# Altium footprint library Capacitors THD.PcbLib: 270 footprints (part 15 of 17)
Each footprint in its own frame and in the unit in brackets; x right, y up, seen from the top. Pads: shape width x height; smd on the part's side, far side on the other; paste and mask are expansions set on the pad; w line width, h text height; cw(c..) or ccw(c..) is an arc to the next point about the centre after c.
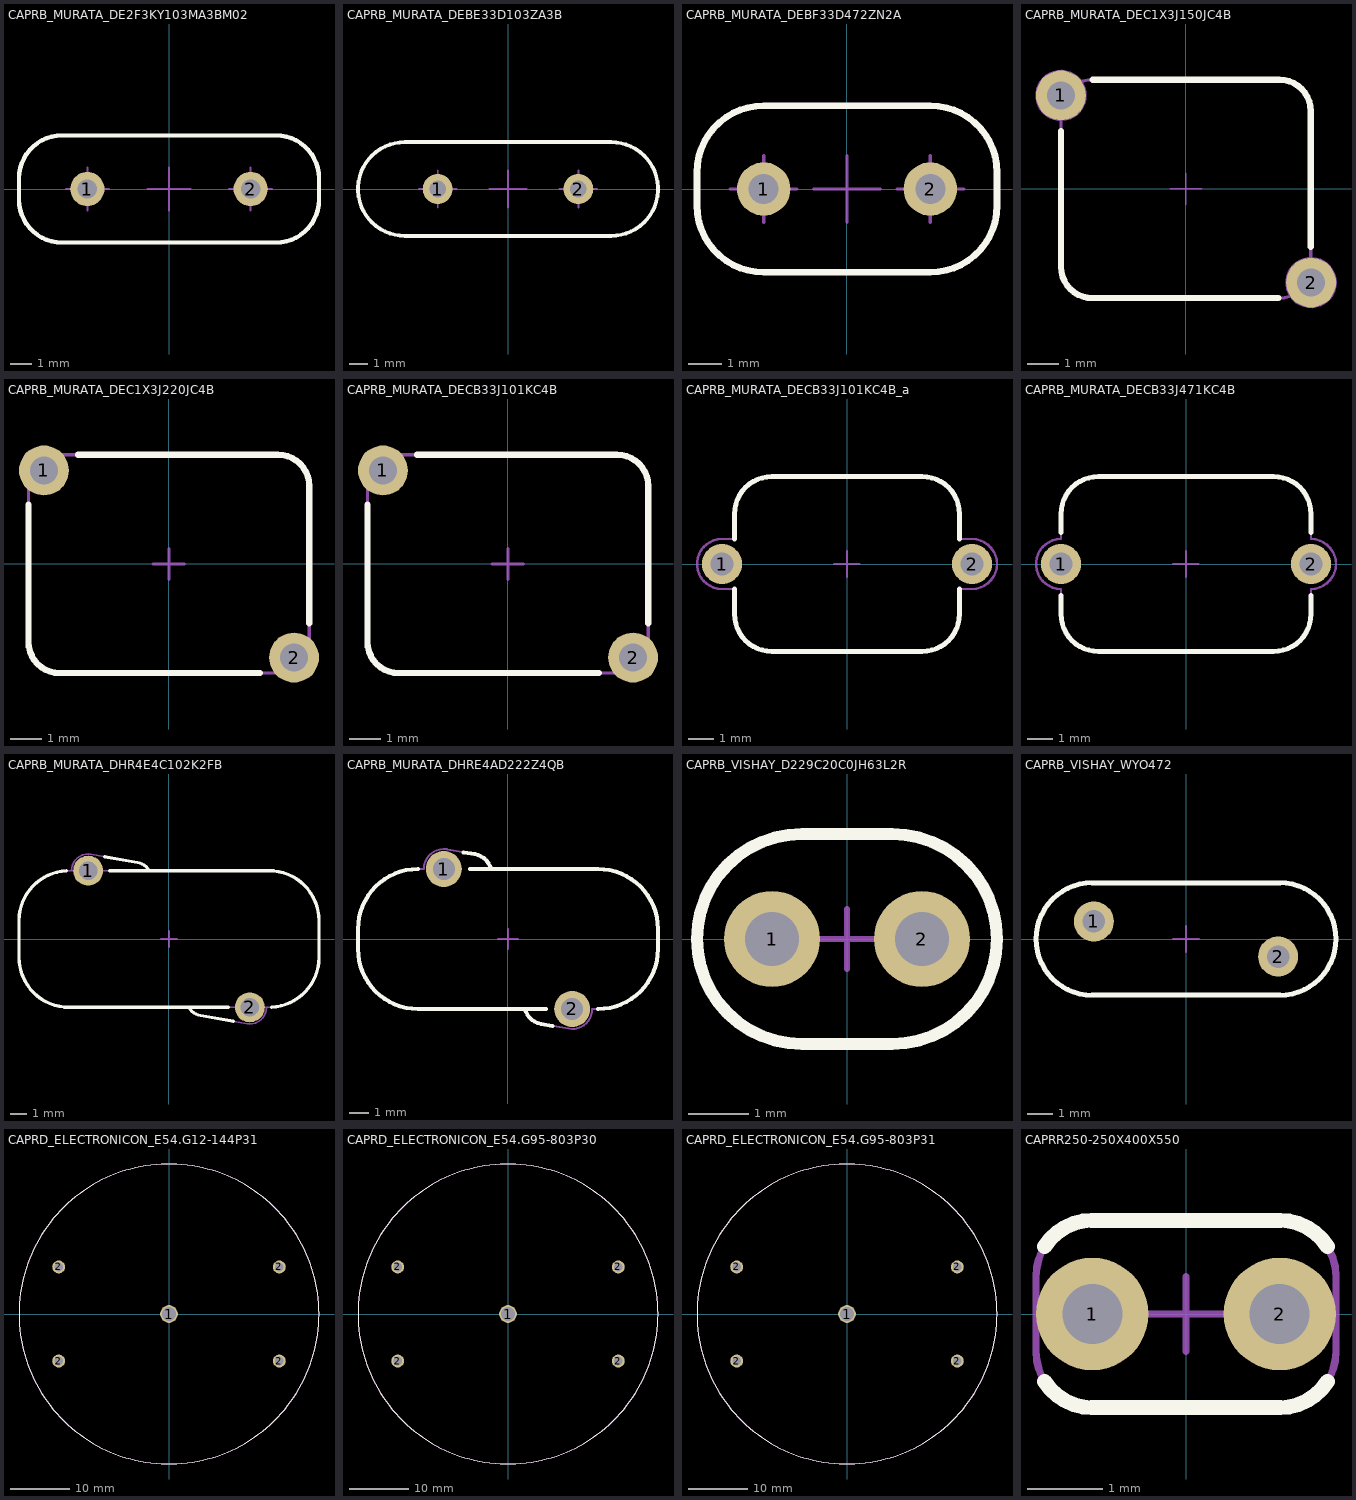
[diagram p14: the footprints below, top view; thin cyan lines are the x and y axes]

## CAPRB_MURATA_DE2F3KY103MA3BM02 [mm] "Capacitor Radial Button, Pin spacing 7.62mm - Body Diameter  14mm X Body Width 5mm X Body Height 17mm"
height 17
pads (2):
  round 1.6 hole 0.9: 1(-3.81,0) 2(3.81,0)
Top Overlay:
  lines w0.2: -7,-0.5 ccw(c-5,-0.5) -5,-2.5 5,-2.5 ccw(c5,-0.5) 7,-0.5 7,0.5 ccw(c5,0.5) 5,2.5 -5,2.5 ccw(c-5,0.5) -7,0.5 -7,-0.5
Mechanical 8:
  lines w0.1: -4.81,0 -3.81,0 ; -3.81,-1 -3.81,0 ; -3.81,1 -3.81,0 ; -2.81,0 -3.81,0 ; -1,0 0,0 ; 0,-1 0,0 ; 0,1 0,0 ; 1,0 0,0 ; 2.81,0 3.81,0 ; 3.81,-1 3.81,0 ; 3.81,1 3.81,0 ; 4.81,0 3.81,0
Mechanical 14:
  lines w0.1: -7,-0.5 ccw(c-5,-0.5) -5,-2.5 5,-2.5 ccw(c5,-0.5) 7,-0.5 7,0.5 ccw(c5,0.5) 5,2.5 -5,2.5 ccw(c-5,0.5) -7,0.5 -7,-0.5
3D body "CAPRB_MURATA_DE2F3KY103MA3BM02.stp": height 17.01, standoff -3.6, extent -7.001,-2.6 7.014,2.6

## CAPRB_MURATA_DEBE33D103ZA3B [mm] "Capacitor Radial Button, Pin spacing 7.5mm - Body Diameter  16mm X Body Width 5mm X Body Height 19mm"
height 19
pads (2):
  round 1.6 hole 0.9: 1(-3.75,0) 2(3.75,0)
Top Overlay:
  lines w0.2: -5.5,-2.5 cw(c-5.5,0) -5.5,2.5 5.5,2.5 cw(c5.5,0) 5.5,-2.5 -5.5,-2.5
Mechanical 8:
  lines w0.1: -4.75,0 -3.75,0 ; -3.75,-1 -3.75,0 ; -3.75,1 -3.75,0 ; -2.75,0 -3.75,0 ; -1,0 0,0 ; 0,-1 0,0 ; 0,1 0,0 ; 1,0 0,0 ; 2.75,0 3.75,0 ; 3.75,-1 3.75,0 ; 3.75,1 3.75,0 ; 4.75,0 3.75,0
Mechanical 14:
  lines w0.1: -5.5,-2.5 cw(c-5.5,0) -5.5,2.5 5.5,2.5 cw(c5.5,0) 5.5,-2.5 -5.5,-2.5
3D body "CAPRB_MURATA_DEBE33D103ZA3B.stp": height 18.97, standoff -3.8, extent -7.924,-2.5 7.988,2.5

## CAPRB_MURATA_DEBF33D472ZN2A [mm] "Capacitor Radial Button, Pin spacing 5mm - Body Diameter  9mm X Body Width 5mm X Body Height 12mm"
height 12
pads (2):
  round 1.6 hole 0.9: 1(-2.5,0) 2(2.5,0)
Top Overlay:
  lines w0.2: -4.5,-0.5 ccw(c-2.5,-0.5) -2.5,-2.5 2.5,-2.5 ccw(c2.5,-0.5) 4.5,-0.5 4.5,0.5 ccw(c2.5,0.5) 2.5,2.5 -2.5,2.5 ccw(c-2.5,0.5) -4.5,0.5 -4.5,-0.5
Mechanical 8:
  lines w0.1: -3.5,0 -2.5,0 ; -2.5,-1 -2.5,0 ; -2.5,1 -2.5,0 ; -1.5,0 -2.5,0 ; -1,0 0,0 ; 0,-1 0,0 ; 0,1 0,0 ; 1,0 0,0 ; 1.5,0 2.5,0 ; 2.5,-1 2.5,0 ; 2.5,1 2.5,0 ; 3.5,0 2.5,0
Mechanical 14:
  lines w0.1: -4.5,-0.5 ccw(c-2.5,-0.5) -2.5,-2.5 2.5,-2.5 ccw(c2.5,-0.5) 4.5,-0.5 4.5,0.5 ccw(c2.5,0.5) 2.5,2.5 -2.5,2.5 ccw(c-2.5,0.5) -4.5,0.5 -4.5,-0.5
3D body "CAPRB_MURATA_DEBF33D472ZN2A.stp": height 11.98, standoff -3.8, extent -4.485,-2.4 4.48,2.4

## CAPRB_MURATA_DEC1X3J150JC4B [mm] "Capacitor Radial Button, Pin spacing 10mm - Body Diameter  8mm X Body Width 7mm X Body Height 11mm"
height 11
pads (2):
  round 1.6 hole 0.9: 1(-4.004,2.995) 2(4.011,-3.001)
Top Overlay:
  lines w0.2: -3.999,1.845 -4,-2.5 ccw(c-3,-2.5) -3,-3.5 2.964,-3.5 ; -2.981,3.5 3,3.5 cw(c3,2.5) 4,2.5 4,-1.851
Mechanical 8:
  circle w0.05: c-4.004,2.995 r0.45
  circle w0.05: c-4.004,2.995 r0.8
  circle w0.05: c4.011,-3.001 r0.45
  circle w0.05: c4.011,-3.001 r0.8
  lines w0.05: -4.504,2.995 -4.004,2.995 ; -4.004,2.495 -4.004,2.995 ; -4.004,3.495 -4.004,2.995 ; -3.504,2.995 -4.004,2.995 ; -0.5,0 0,0 ; 0,-0.5 0,0 ; 0,0.5 0,0 ; 0.5,0 0,0 ; 3.511,-3.001 4.011,-3.001 ; 4.011,-3.501 4.011,-3.001 ; 4.011,-2.501 4.011,-3.001 ; 4.511,-3.001 4.011,-3.001
Mechanical 14:
  lines w0.1: -4,-2.5 ccw(c-3,-2.5) -3,-3.5 3,-3.5 ccw(c3,-2.5) 4,-2.5 4,2.5 ccw(c3,2.5) 3,3.5 -3,3.5 ccw(c-3,2.5) -4,2.5 -4,-2.5
3D body "CAPRB_MURATA_DEC1X3J150JC4B.stp": height 11, standoff -3.8, extent -4.503,-3.5 4.504,3.5

## CAPRB_MURATA_DEC1X3J220JC4B [mm] "Capacitor Radial Button, Pin spacing 10mm - Body Diameter  9mm X Body Width 7mm X Body Height 12mm"
height 12
pads (2):
  round 1.6 hole 0.9: 1(-4.004,2.995) 2(4.011,-3.001)
Top Overlay:
  lines w0.2: -4.5,1.903 -4.5,-2.5 ccw(c-3.5,-2.5) -3.5,-3.5 2.92,-3.5 ; -2.915,3.5 3.5,3.5 cw(c3.5,2.5) 4.5,2.5 4.5,-1.905
Mechanical 8:
  lines w0.1: -4.504,2.995 -4.004,2.995 ; -4.004,2.495 -4.004,2.995 ; -4.004,3.495 -4.004,2.995 ; -3.504,2.995 -4.004,2.995 ; -0.5,0 0,0 ; 0,-0.5 0,0 ; 0,0.5 0,0 ; 0.5,0 0,0 ; 3.511,-3.001 4.011,-3.001 ; 4.011,-3.501 4.011,-3.001 ; 4.011,-2.501 4.011,-3.001 ; 4.511,-3.001 4.011,-3.001
Mechanical 14:
  lines w0.1: -4.5,-2.5 ccw(c-3.5,-2.5) -3.5,-3.5 3.5,-3.5 ccw(c3.5,-2.5) 4.5,-2.5 4.5,2.5 ccw(c3.5,2.5) 3.5,3.5 -3.5,3.5 ccw(c-3.5,2.5) -4.5,2.5 -4.5,-2.5
3D body "CAPRB_MURATA_DEC1X3J220JC4B.stp": height 12, standoff -3.8, extent -4.509,-3.5 4.51,3.501

## CAPRB_MURATA_DECB33J101KC4B [mm] "Capacitor Radial Button, Pin spacing 7.62mm - Body Diameter  9mm X Body Width 7mm X Body Height 12mm"
height 12
pads (2):
  round 1.6 hole 0.9: 1(-4.004,2.995) 2(4.011,-3.001)
Top Overlay:
  lines w0.2: -4.5,1.903 -4.5,-2.5 ccw(c-3.5,-2.5) -3.5,-3.5 2.92,-3.5 ; -2.915,3.5 3.5,3.5 cw(c3.5,2.5) 4.5,2.5 4.5,-1.905
Mechanical 8:
  lines w0.1: -4.504,2.995 -4.004,2.995 ; -4.004,2.495 -4.004,2.995 ; -4.004,3.495 -4.004,2.995 ; -3.504,2.995 -4.004,2.995 ; -0.5,0 0,0 ; 0,-0.5 0,0 ; 0,0.5 0,0 ; 0.5,0 0,0 ; 3.511,-3.001 4.011,-3.001 ; 4.011,-3.501 4.011,-3.001 ; 4.011,-2.501 4.011,-3.001 ; 4.511,-3.001 4.011,-3.001
Mechanical 14:
  lines w0.1: -4.5,-2.5 ccw(c-3.5,-2.5) -3.5,-3.5 3.5,-3.5 ccw(c3.5,-2.5) 4.5,-2.5 4.5,2.5 ccw(c3.5,2.5) 3.5,3.5 -3.5,3.5 ccw(c-3.5,2.5) -4.5,2.5 -4.5,-2.5
3D body "CAPRB_MURATA_DECB33J101KC4B.stp": height 12, standoff -3.8, extent -4.51,-3.5 4.51,3.501

## CAPRB_MURATA_DECB33J101KC4B_a [mm] "Capacitor Radial Button, Pin spacing  10mm - Body Diameter  9mm X Body Width 7mm X Body Height 12mm"
height 12
pads (2):
  round 1.6 hole 0.9: 1(-5,0) 2(5,0)
Top Overlay:
  lines w0.2: -4.5,-1 -4.5,-2 ccw(c-3,-2) -3,-3.5 3,-3.5 ccw(c3,-2) 4.5,-2 4.5,-1 ; -4.5,1 -4.5,2 cw(c-3,2) -3,3.5 3,3.5 cw(c3,2) 4.5,2 4.5,1
Mechanical 8:
  lines w0.1: -5.5,0 -5,0 ; -5,-0.5 -5,0 ; -5,0.5 -5,0 ; -4.5,0 -5,0 ; -0.5,0 0,0 ; 0,-0.5 0,0 ; 0,0.5 0,0 ; 0.5,0 0,0 ; 4.5,0 5,0 ; 5,-0.5 5,0 ; 5,0.5 5,0 ; 5.5,0 5,0
Mechanical 14:
  lines w0.1: -5,-1 cw(c-5,0) -5,1 -4.5,1 -4.5,2 cw(c-3,2) -3,3.5 3,3.5 cw(c3,2) 4.5,2 4.5,1 5,1 cw(c5,0) 5,-1 4.5,-1 4.5,-2 cw(c3,-2) 3,-3.5 -3,-3.5 cw(c-3,-2) -4.5,-2 -4.5,-1 -5,-1
3D body "CAPRB_MURATA_DECB33J101KC4B.stp": height 12, standoff -3.6, extent -6,-3.5 6,3.5

## CAPRB_MURATA_DECB33J471KC4B [mm] "Capacitor Radial Button, Pin spacing 7.62mm - Body Diameter  10mm X Body Width 7mm X Body Height 12mm"
height 12
pads (2):
  round 1.6 hole 0.9: 1(-5,0) 2(5,0)
Top Overlay:
  lines w0.2: -5,-1.27 -5,-2 ccw(c-3.5,-2) -3.5,-3.5 3.5,-3.5 ccw(c3.5,-2) 5,-2 5,-1.27 ; -5,1.27 -5,2 cw(c-3.5,2) -3.5,3.5 3.5,3.5 cw(c3.5,2) 5,2 5,1.27
Mechanical 8:
  lines w0.1: -5.5,0 -5,0 ; -5,-0.5 -5,0 ; -5,0.5 -5,0 ; -4.5,0 -5,0 ; -0.5,0 0,0 ; 0,-0.5 0,0 ; 0,0.5 0,0 ; 0.5,0 0,0 ; 4.5,0 5,0 ; 5,-0.5 5,0 ; 5,0.5 5,0 ; 5.5,0 5,0
Mechanical 14:
  lines w0.1: -5,-2 ccw(c-3.5,-2) -3.5,-3.5 3.5,-3.5 ccw(c3.5,-2) 5,-2 5,-1 ccw(c5,0) 5,1 5,2 ccw(c3.5,2) 3.5,3.5 -3.5,3.5 ccw(c-3.5,2) -5,2 -5,1 ccw(c-5,0) -5,-1 -5,-2
3D body "CAPRB_MURATA_DECB33J471KC4B.stp": height 13, standoff -3.6, extent -6,-3.5 6,3.5

## CAPRB_MURATA_DHR4E4C102K2FB [mm] "Capacitor Radial Button, Pin spacing 12.7mm - Body Diameter  18mm X Body Width 8.2mm X Body Height 22mm"
height 22
pads (2):
  round 1.8 hole 1.1: 1(-4.849,4.1) 2(4.849,-4.1)
Top Overlay:
  lines w0.2: -6.149,4.096 ccw(c-6,1.1) -9,1.1 -9,-1.1 ccw(c-6,-1.1) -6,-4.1 3.549,-4.1 ; -3.857,4.941 -1.89,4.594 cw(c-2.063,3.609) -1.192,4.1 ; -3.549,4.1 6,4.1 cw(c6,1.1) 9,1.1 9,-1.1 cw(c6,-1.1) 6.149,-4.096 ; 1.192,-4.1 ccw(c2.064,-3.609) 1.89,-4.594 3.857,-4.941
Mechanical 8:
  lines w0.1: -5.349,4.1 -4.849,4.1 ; -4.849,3.6 -4.849,4.1 ; -4.849,4.6 -4.849,4.1 ; -4.349,4.1 -4.849,4.1 ; -0.5,0 0,0 ; 0,-0.5 0,0 ; 0,0.5 0,0 ; 0.5,0 0,0 ; 4.349,-4.1 4.849,-4.1 ; 4.849,-4.6 4.849,-4.1 ; 4.849,-3.6 4.849,-4.1 ; 5.349,-4.1 4.849,-4.1
Mechanical 14:
  lines w0.1: -5.849,4.1 cw(c-4.849,4.1) -4.675,5.085 -1.89,4.594 cw(c-2.064,3.609) -1.192,4.1 ; 1.192,-4.1 ccw(c2.064,-3.609) 1.89,-4.594 4.675,-5.085 ccw(c4.849,-4.1) 5.849,-4.1 ; -9,-1.1 ccw(c-6,-1.1) -6,-4.1 6,-4.1 ccw(c6,-1.1) 9,-1.1 9,1.1 ccw(c6,1.1) 6,4.1 -6,4.1 ccw(c-6,1.1) -9,1.1 -9,-1.1
3D body "CAPRB_MURATA_DHR4E4C102K2FB.stp": height 22, standoff -3.6, extent -9,-5.1 9,5.1

## CAPRB_MURATA_DHRE4AD222Z4QB [mm] "Capacitor Radial Button, Pin spacing 9.5mm - Body Diameter  15mm X Body Width 7mm X Body Height 20mm"
height 20
pads (2):
  round 1.8 hole 1.1: 1(-3.211,3.5) 2(3.211,-3.5)
Top Overlay:
  lines w0.2: -4.511,3.5 ccw(c-4.5,0.5) -7.5,0.5 -7.5,-0.5 ccw(c-4.5,-0.5) -4.5,-3.5 1.911,-3.5 ; -2.214,4.334 -1.645,4.239 ; -1.911,3.5 4.5,3.5 cw(c4.5,0.5) 7.5,0.5 7.5,-0.5 cw(c4.5,-0.5) 4.511,-3.5 ; -1.664,4.242 cw(c-1.819,3.254) -0.849,3.5 ; 0.849,-3.5 ccw(c1.819,-3.254) 1.645,-4.239 2.22,-4.341
Mechanical 8:
  lines w0.1: -3.711,3.5 -3.211,3.5 ; -3.211,3 -3.211,3.5 ; -3.211,4 -3.211,3.5 ; -2.711,3.5 -3.211,3.5 ; -0.5,0 0,0 ; 0,-0.5 0,0 ; 0,0.5 0,0 ; 0.5,0 0,0 ; 2.711,-3.5 3.211,-3.5 ; 3.211,-4 3.211,-3.5 ; 3.211,-3 3.211,-3.5 ; 3.711,-3.5 3.211,-3.5
Mechanical 14:
  lines w0.1: -3.211,4.5 -1.645,4.239 ; -2.887,4.446 ccw(c-3.211,3.5) -4.211,3.5 -4.5,3.5 ccw(c-4.5,0.5) -7.5,0.5 -7.5,-0.5 ccw(c-4.5,-0.5) -4.5,-3.5 0.849,-3.5 ccw(c1.819,-3.254) 1.645,-4.239 3.038,-4.485 ccw(c3.211,-3.5) 4.211,-3.5 4.5,-3.5 ccw(c4.5,-0.5) 7.5,-0.5 7.5,0.5 ccw(c4.5,0.5) 4.5,3.5 -0.849,3.5 ccw(c-1.819,3.254) -1.664,4.242
3D body "CAPRB_MURATA_DHRE4AD222Z4QB.stp": height 19, standoff -3.6, extent -7.5,-4.5 7.5,4.5

## CAPRB_VISHAY_D229C20C0JH63L2R [mm] "Capacitor Radial Button, Pin spacing 2.5mm - Body Diameter  5mm X Body Width 3.5mm X Body Height 6.5mm"
height 6.5
pads (2):
  round 1.6 hole 0.9: 1(-1.25,0) 2(1.25,0)
Top Overlay:
  lines w0.2: -0.75,-1.75 cw(c-0.75,0) -0.75,1.75 0.75,1.75 cw(c0.75,0) 0.75,-1.75 -0.75,-1.75
Mechanical 8:
  lines w0.1: -1.75,0 -1.25,0 ; -1.25,-0.5 -1.25,0 ; -1.25,0.5 -1.25,0 ; -0.75,0 -1.25,0 ; -0.5,0 0,0 ; 0,-0.5 0,0 ; 0,0.5 0,0 ; 0.5,0 0,0 ; 0.75,0 1.25,0 ; 1.25,-0.5 1.25,0 ; 1.25,0.5 1.25,0 ; 1.75,0 1.25,0
Mechanical 14:
  lines w0.1: -0.75,-1.75 cw(c-0.75,0) -0.75,1.75 0.75,1.75 cw(c0.75,0) 0.75,-1.75 -0.75,-1.75
3D body "CAPRB_VISHAY_D229C20C0JH63L2R.stp": height 6.5, standoff -3.8, extent -2.5,-1.75 2.5,1.75

## CAPRB_VISHAY_WYO472 [mm] "Capacitor Radial Button, Pin spacing 2.5mm - Body Diameter  12mm X Body Width 4.5mm X Body Height 15mm"
height 15
pads (2):
  round 1.6 hole 0.9: 1(-3.684,0.7) 2(3.684,-0.7)
Top Overlay:
  lines w0.2: -6,0 ccw(c-3.75,0) -3.75,-2.25 3.75,-2.25 ccw(c3.75,0) 6,0 ccw(c3.75,0) 3.75,2.25 -3.75,2.25 ccw(c-3.75,0) -6,0
Mechanical 8:
  lines w0.1: -4.184,0.7 -3.684,0.7 ; -3.684,0.2 -3.684,0.7 ; -3.684,1.2 -3.684,0.7 ; -3.184,0.7 -3.684,0.7 ; -0.5,0 0,0 ; 0,-0.5 0,0 ; 0,0.5 0,0 ; 0.5,0 0,0 ; 3.184,-0.7 3.684,-0.7 ; 3.684,-1.2 3.684,-0.7 ; 3.684,-0.2 3.684,-0.7 ; 4.184,-0.7 3.684,-0.7
Mechanical 14:
  lines w0.1: -6,0 ccw(c-3.75,0) -3.75,-2.25 3.75,-2.25 ccw(c3.75,0) 6,0 ccw(c3.75,0) 3.75,2.25 -3.75,2.25 ccw(c-3.75,0) -6,0
3D body "CAPRB_VISHAY_WYO472.stp": height 14.98, standoff -3.8, extent -5.984,-2.25 5.943,2.25

## CAPRD_ELECTRONICON_E54.G12-144P31 [mm] "Capacitor Radial Diameter, 5 Pin - Body Length 120mm X Body Diameter 50mm"
height 122
pads (5):
  round 3 hole 2.3: 1(0,0)
  round 2.2 hole 1.5: 2(-18.75,-8) 2(-18.75,8) 2(18.75,-8) 2(18.75,8)
Top Overlay:
  circle w0.2: c0,0 r25.5
Mechanical 8:
  lines w0.1: -19.25,-8 -18.75,-8 ; -19.25,8 -18.75,8 ; -18.75,-8.5 -18.75,-8 ; -18.75,-7.5 -18.75,-8 ; -18.75,7.5 -18.75,8 ; -18.75,8.5 -18.75,8 ; -18.25,-8 -18.75,-8 ; -18.25,8 -18.75,8 ; -0.5,0 0,0 ; 0,-0.5 0,0 ; 0,0.5 0,0 ; 0.5,0 0,0 ; 18.25,-8 18.75,-8 ; 18.25,8 18.75,8 ; 18.75,-8.5 18.75,-8 ; 18.75,-7.5 18.75,-8 ; 18.75,7.5 18.75,8 ; 18.75,8.5 18.75,8 ; 19.25,-8 18.75,-8 ; 19.25,8 18.75,8
Mechanical 14:
  circle w0.1: c0,0 r25.5
3D body "CAPRD_ELECTRONICON_E54.G12-144P31.stp": height 122, standoff -3.2, extent -25.5,-25.5 25.5,25.5

## CAPRD_ELECTRONICON_E54.G95-803P30 [mm] "Capacitor Radial Diameter, 5 Pin - Body Length 95mm X Body Diameter 50mm"
height 97
pads (5):
  round 3 hole 2.3: 1(0,0)
  round 2.2 hole 1.5: 2(-18.75,-8) 2(-18.75,8) 2(18.75,-8) 2(18.75,8)
Top Overlay:
  circle w0.2: c0,0 r25.5
Mechanical 8:
  lines w0.1: -19.25,-8 -18.75,-8 ; -19.25,8 -18.75,8 ; -18.75,-8.5 -18.75,-8 ; -18.75,-7.5 -18.75,-8 ; -18.75,7.5 -18.75,8 ; -18.75,8.5 -18.75,8 ; -18.25,-8 -18.75,-8 ; -18.25,8 -18.75,8 ; -0.5,0 0,0 ; 0,-0.5 0,0 ; 0,0.5 0,0 ; 0.5,0 0,0 ; 18.25,-8 18.75,-8 ; 18.25,8 18.75,8 ; 18.75,-8.5 18.75,-8 ; 18.75,-7.5 18.75,-8 ; 18.75,7.5 18.75,8 ; 18.75,8.5 18.75,8 ; 19.25,-8 18.75,-8 ; 19.25,8 18.75,8
Mechanical 14:
  circle w0.1: c0,0 r25.5
3D body "CAPRD_ELECTRONICON_E54.G95-803P30.stp": height 97, standoff -3.2, extent -25.5,-25.457 25.5,25.457

## CAPRD_ELECTRONICON_E54.G95-803P31 [mm] "Capacitor Radial Diameter, 5 Pin - Body Length 95mm X Body Diameter 50mm"
height 97
pads (5):
  round 3 hole 2.3: 1(0,0)
  round 2.2 hole 1.5: 2(-18.75,-8) 2(-18.75,8) 2(18.75,-8) 2(18.75,8)
Top Overlay:
  circle w0.2: c0,0 r25.5
Mechanical 8:
  lines w0.1: -19.25,-8 -18.75,-8 ; -19.25,8 -18.75,8 ; -18.75,-8.5 -18.75,-8 ; -18.75,-7.5 -18.75,-8 ; -18.75,7.5 -18.75,8 ; -18.75,8.5 -18.75,8 ; -18.25,-8 -18.75,-8 ; -18.25,8 -18.75,8 ; -0.5,0 0,0 ; 0,-0.5 0,0 ; 0,0.5 0,0 ; 0.5,0 0,0 ; 18.25,-8 18.75,-8 ; 18.25,8 18.75,8 ; 18.75,-8.5 18.75,-8 ; 18.75,-7.5 18.75,-8 ; 18.75,7.5 18.75,8 ; 18.75,8.5 18.75,8 ; 19.25,-8 18.75,-8 ; 19.25,8 18.75,8
Mechanical 14:
  circle w0.1: c0,0 r25.5
3D body "CAPRD_ELECTRONICON_E54.G95-803P30.stp": height 97, standoff -3.2, extent -25.5,-25.457 25.5,25.457

## CAPRR250-250X400X550 [mm] "Capacitor Radial, Pin spacing 2mm - Body With 2.5mm X Body Length 4mm X Body Height 5.5mm"
height 5.5
pads (2):
  round 1.5 hole 0.8: 1(-1.25,0) 2(1.25,0)
Top Overlay:
  lines w0.2: -1.886,-0.897 ccw(c-1.25,-0.5) -1.25,-1.25 1.25,-1.25 ccw(c1.25,-0.5) 1.886,-0.897 ; -1.886,0.897 cw(c-1.25,0.5) -1.25,1.25 1.25,1.25 cw(c1.25,0.5) 1.886,0.897
Mechanical 8:
  lines w0.1: -1.75,0 -1.25,0 ; -1.25,-0.5 -1.25,0 ; -1.25,0.5 -1.25,0 ; -0.75,0 -1.25,0 ; -0.5,0 0,0 ; 0,-0.5 0,0 ; 0,0.5 0,0 ; 0.5,0 0,0 ; 0.75,0 1.25,0 ; 1.25,-0.5 1.25,0 ; 1.25,0.5 1.25,0 ; 1.75,0 1.25,0
Mechanical 14:
  lines w0.1: -2,-0.5 ccw(c-1.25,-0.5) -1.25,-1.25 1.25,-1.25 ccw(c1.25,-0.5) 2,-0.5 2,0.5 ccw(c1.25,0.5) 1.25,1.25 -1.25,1.25 ccw(c-1.25,0.5) -2,0.5 -2,-0.5
3D body "CAPRR250-250X400X550.stp": height 5.5, standoff -3.2, extent -2,-1.25 2,1.25